# EAGLE library part UH7843 (library IC)
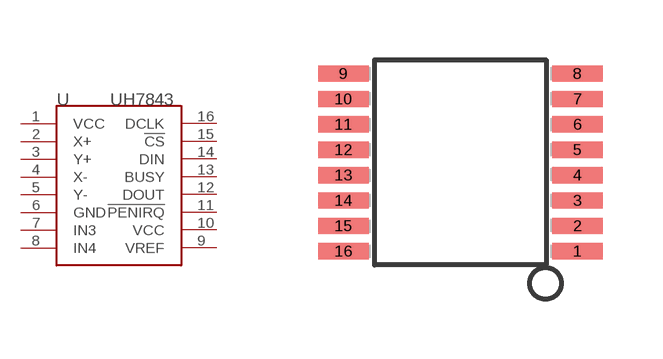
[diagram p146: symbol with the pads of SSOP16; footprint SSOP16]

Designator prefix U

## UH7843S  [SSOP16]
1  VCC
2  X+
3  Y+
4  X-
5  Y-
6  GND
7  IN3
8  IN4
9  VREF
10  VCC
11  !PENIRQ
12  DOUT
13  BUSY
14  DIN
15  !CS
16  DCLK

## Footprint SSOP16 (pad centres in mm)
Small Shrink Outline Package
smd 1.27 x 0.406: 1 2.925,-2.223; 2 2.925,-1.587; 3 2.925,-0.953; 4 2.925,-0.318; 5 2.925,0.318; 6 2.925,0.953; 7 2.925,1.587; 8 2.925,2.223; 9 -2.925,2.223; 10 -2.925,1.587; 11 -2.925,0.953; 12 -2.925,0.318; 13 -2.925,-0.318; 14 -2.925,-0.953; 15 -2.925,-1.587; 16 -2.925,-2.223